# EAGLE library part HEADER-2X6P (library Connector)
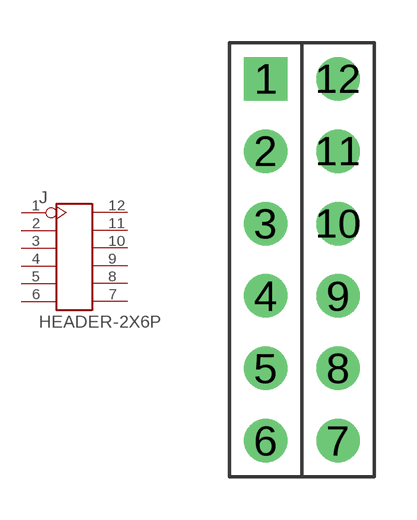
[diagram p9: symbol with the pads of 2X6P-2.54-DIP; footprint 2X6P-2.54-DIP]

Designator prefix J

## HEADER-2X6P-2.54  [2X6P-2.54-DIP]
1  1
2  2
3  3
4  4
5  5
6  6
7  7
8  8
9  9
10  10
11  11
12  12

## Footprint 2X6P-2.54-DIP (pad centres in mm)
drill 0.889 pad 1.524 square: 1 -1.27,6.35
drill 0.889 pad 1.524 round: 2 -1.27,3.81; 3 -1.27,1.27; 4 -1.27,-1.27; 5 -1.27,-3.81; 6 -1.27,-6.35; 7 1.27,-6.35; 8 1.27,-3.81; 9 1.27,-1.27; 10 1.27,1.27; 11 1.27,3.81; 12 1.27,6.35